# EAGLE library part XC2S-PQ208 (library Xilinx)
Spartan 2 in a PQ208 package with no connects for the 30 XC2S30 device labeled with NC
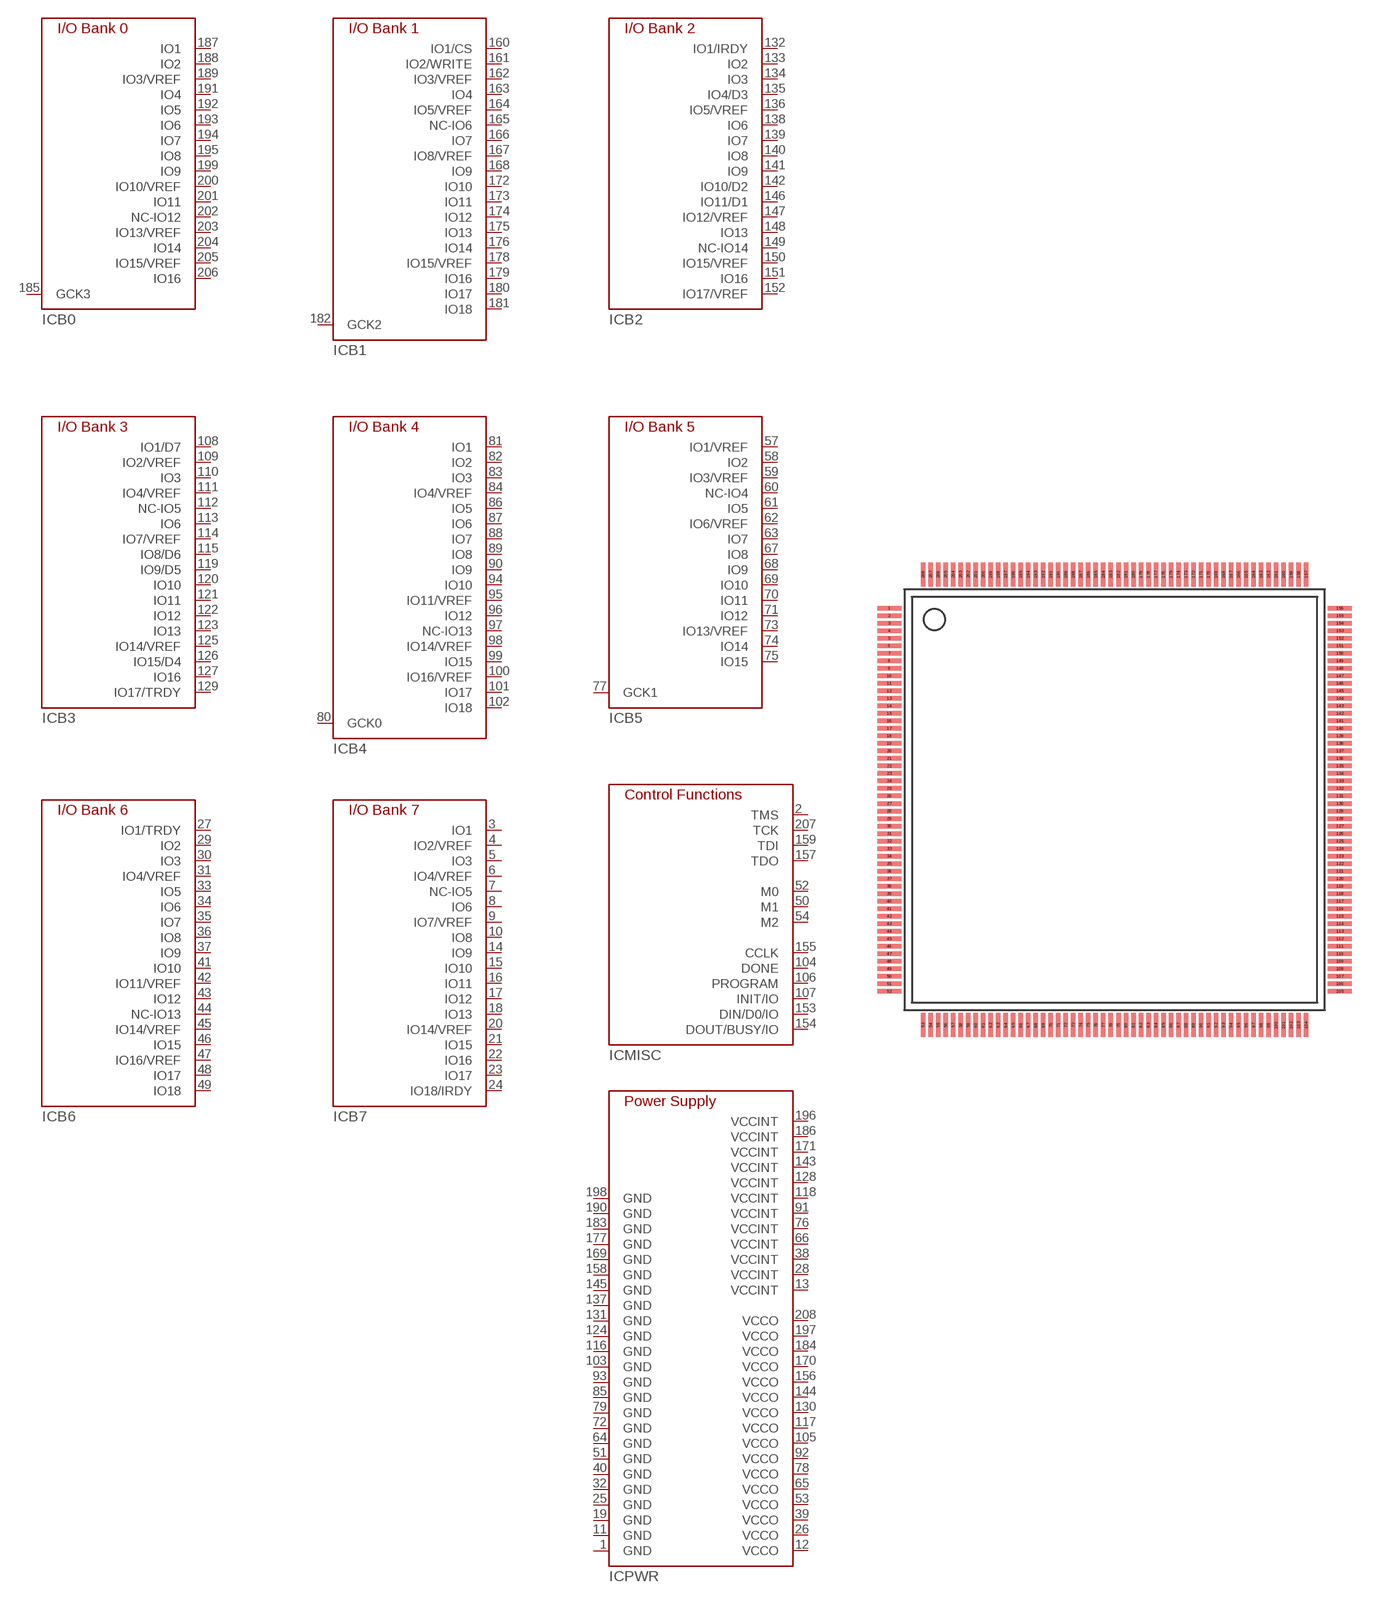
[diagram p25: symbol with the pads of PQ208; footprint PQ208]

Designator prefix IC; gates B0=XC2S/PQ208-B0 B1=XC2S/PQ208-B1 B2=XC2S/PQ208-B2 B3=XC2S/PQ208-B3 B4=XC2S/PQ208-B4 B5=XC2S/PQ208-B5 B6=XC2S/PQ208-B6 B7=XC2S/PQ208-B7 MISC=XC2S/PQ208-MISC PWR=XC2S/PQ208-PWR

## XC2S-PQ208  [PQ208]
1  PWR:GND  pwr
2  MISC:TMS
3  B7:IO1
4  B7:IO2/VREF
5  B7:IO3
6  B7:IO4/VREF
7  B7:NC-IO5
8  B7:IO6
9  B7:IO7/VREF
10  B7:IO8
11  PWR:GND  pwr
12  PWR:VCCO  pwr
13  PWR:VCCINT  pwr
14  B7:IO9
15  B7:IO10
16  B7:IO11
17  B7:IO12
18  B7:IO13
19  PWR:GND  pwr
20  B7:IO14/VREF
21  B7:IO15
22  B7:IO16
23  B7:IO17
24  B7:IO18/IRDY
25  PWR:GND  pwr
26  PWR:VCCO  pwr
27  B6:IO1/TRDY
28  PWR:VCCINT  pwr
29  B6:IO2
30  B6:IO3
31  B6:IO4/VREF
32  PWR:GND  pwr
33  B6:IO5
34  B6:IO6
35  B6:IO7
36  B6:IO8
37  B6:IO9
38  PWR:VCCINT  pwr
39  PWR:VCCO  pwr
40  PWR:GND  pwr
41  B6:IO10
42  B6:IO11/VREF
43  B6:IO12
44  B6:NC-IO13
45  B6:IO14/VREF
46  B6:IO15
47  B6:IO16/VREF
48  B6:IO17
49  B6:IO18
50  MISC:M1
51  PWR:GND  pwr
52  MISC:M0
53  PWR:VCCO  pwr
54  MISC:M2
57  B5:IO1/VREF
58  B5:IO2
59  B5:IO3/VREF
60  B5:NC-IO4
61  B5:IO5
62  B5:IO6/VREF
63  B5:IO7
64  PWR:GND  pwr
65  PWR:VCCO  pwr
66  PWR:VCCINT  pwr
67  B5:IO8
68  B5:IO9
69  B5:IO10
70  B5:IO11
71  B5:IO12
72  PWR:GND  pwr
73  B5:IO13/VREF
74  B5:IO14
75  B5:IO15
76  PWR:VCCINT  pwr
77  B5:GCK1
78  PWR:VCCO  pwr
79  PWR:GND  pwr
80  B4:GCK0
81  B4:IO1
82  B4:IO2
83  B4:IO3
84  B4:IO4/VREF
85  PWR:GND  pwr
86  B4:IO5
87  B4:IO6
88  B4:IO7
89  B4:IO8
90  B4:IO9
91  PWR:VCCINT  pwr
92  PWR:VCCO  pwr
93  PWR:GND  pwr
94  B4:IO10
95  B4:IO11/VREF
96  B4:IO12
97  B4:NC-IO13
98  B4:IO14/VREF
99  B4:IO15
100  B4:IO16/VREF
101  B4:IO17
102  B4:IO18
103  PWR:GND  pwr
104  MISC:DONE
105  PWR:VCCO  pwr
106  MISC:PROGRAM
107  MISC:INIT/IO
108  B3:IO1/D7
109  B3:IO2/VREF
110  B3:IO3
111  B3:IO4/VREF
112  B3:NC-IO5
113  B3:IO6
114  B3:IO7/VREF
115  B3:IO8/D6
116  PWR:GND  pwr
117  PWR:VCCO  pwr
118  PWR:VCCINT  pwr
119  B3:IO9/D5
120  B3:IO10
121  B3:IO11
122  B3:IO12
123  B3:IO13
124  PWR:GND  pwr
125  B3:IO14/VREF
126  B3:IO15/D4
127  B3:IO16
128  PWR:VCCINT  pwr
129  B3:IO17/TRDY
130  PWR:VCCO  pwr
131  PWR:GND  pwr
132  B2:IO1/IRDY
133  B2:IO2
134  B2:IO3
135  B2:IO4/D3
136  B2:IO5/VREF
137  PWR:GND  pwr
138  B2:IO6
139  B2:IO7
140  B2:IO8
141  B2:IO9
142  B2:IO10/D2
143  PWR:VCCINT  pwr
144  PWR:VCCO  pwr
145  PWR:GND  pwr
146  B2:IO11/D1
147  B2:IO12/VREF
148  B2:IO13
149  B2:NC-IO14
150  B2:IO15/VREF
151  B2:IO16
152  B2:IO17/VREF
153  MISC:DIN/D0/IO
154  MISC:DOUT/BUSY/IO
155  MISC:CCLK
156  PWR:VCCO  pwr
157  MISC:TDO
158  PWR:GND  pwr
159  MISC:TDI
160  B1:IO1/CS
161  B1:IO2/WRITE
162  B1:IO3/VREF
163  B1:IO4
164  B1:IO5/VREF
165  B1:NC-IO6
166  B1:IO7
167  B1:IO8/VREF
168  B1:IO9
169  PWR:GND  pwr
170  PWR:VCCO  pwr
171  PWR:VCCINT  pwr
172  B1:IO10
173  B1:IO11
174  B1:IO12
175  B1:IO13
176  B1:IO14
177  PWR:GND  pwr
178  B1:IO15/VREF
179  B1:IO16
180  B1:IO17
181  B1:IO18
182  B1:GCK2
183  PWR:GND  pwr
184  PWR:VCCO  pwr
185  B0:GCK3
186  PWR:VCCINT  pwr
187  B0:IO1
188  B0:IO2
189  B0:IO3/VREF
190  PWR:GND  pwr
191  B0:IO4
192  B0:IO5
193  B0:IO6
194  B0:IO7
195  B0:IO8
196  PWR:VCCINT  pwr
197  PWR:VCCO  pwr
198  PWR:GND  pwr
199  B0:IO9
200  B0:IO10/VREF
201  B0:IO11
202  B0:NC-IO12
203  B0:IO13/VREF
204  B0:IO14
205  B0:IO15/VREF
206  B0:IO16
207  MISC:TCK
208  PWR:VCCO  pwr

## Footprint PQ208 (pad centres in mm)
smd 1.6 x 0.3: 1 -15,12.75; 2 -15,12.25; 3 -15,11.75; 4 -15,11.25; 5 -15,10.75; 6 -15,10.25; 7 -15,9.75; 8 -15,9.25; 9 -15,8.75; 10 -15,8.25; 11 -15,7.75; 12 -15,7.25; 13 -15,6.75; 14 -15,6.25; 15 -15,5.75; 16 -15,5.25; 17 -15,4.75; 18 -15,4.25; 19 -15,3.75; 20 -15,3.25; 21 -15,2.75; 22 -15,2.25; 23 -15,1.75; 24 -15,1.25; 25 -15,0.75; 26 -15,0.25; 27 -15,-0.25; 28 -15,-0.75; 29 -15,-1.25; 30 -15,-1.75; 31 -15,-2.25; 32 -15,-2.75; 33 -15,-3.25; 34 -15,-3.75; 35 -15,-4.25; 36 -15,-4.75; 37 -15,-5.25; 38 -15,-5.75; 39 -15,-6.25; 40 -15,-6.75; 41 -15,-7.25; 42 -15,-7.75; 43 -15,-8.25; 44 -15,-8.75; 45 -15,-9.25; 46 -15,-9.75; 47 -15,-10.25; 48 -15,-10.75; 49 -15,-11.25; 50 -15,-11.75; 51 -15,-12.25; 52 -15,-12.75; 105 15,-12.75; 106 15,-12.25; 107 15,-11.75; 108 15,-11.25; 109 15,-10.75; 110 15,-10.25; 111 15,-9.75; 112 15,-9.25; 113 15,-8.75; 114 15,-8.25; 115 15,-7.75; 116 15,-7.25; 117 15,-6.75; 118 15,-6.25; 119 15,-5.75; 120 15,-5.25; 121 15,-4.75; 122 15,-4.25; 123 15,-3.75; 124 15,-3.25; 125 15,-2.75; 126 15,-2.25; 127 15,-1.75; 128 15,-1.25; 129 15,-0.75; 130 15,-0.25; 131 15,0.25; 132 15,0.75; 133 15,1.25; 134 15,1.75; 135 15,2.25; 136 15,2.75; 137 15,3.25; 138 15,3.75; 139 15,4.25; 140 15,4.75; 141 15,5.25; 142 15,5.75; 143 15,6.25; 144 15,6.75; 145 15,7.25; 146 15,7.75; 147 15,8.25; 148 15,8.75; 149 15,9.25; 150 15,9.75; 151 15,10.25; 152 15,10.75; 153 15,11.25; 154 15,11.75; 155 15,12.25; 156 15,12.75
smd 0.3 x 1.6: 53 -12.75,-15; 54 -12.25,-15; 55 -11.75,-15; 56 -11.25,-15; 57 -10.75,-15; 58 -10.25,-15; 59 -9.75,-15; 60 -9.25,-15; 61 -8.75,-15; 62 -8.25,-15; 63 -7.75,-15; 64 -7.25,-15; 65 -6.75,-15; 66 -6.25,-15; 67 -5.75,-15; 68 -5.25,-15; 69 -4.75,-15; 70 -4.25,-15; 71 -3.75,-15; 72 -3.25,-15; 73 -2.75,-15; 74 -2.25,-15; 75 -1.75,-15; 76 -1.25,-15; 77 -0.75,-15; 78 -0.25,-15; 79 0.25,-15; 80 0.75,-15; 81 1.25,-15; 82 1.75,-15; 83 2.25,-15; 84 2.75,-15; 85 3.25,-15; 86 3.75,-15; 87 4.25,-15; 88 4.75,-15; 89 5.25,-15; 90 5.75,-15; 91 6.25,-15; 92 6.75,-15; 93 7.25,-15; 94 7.75,-15; 95 8.25,-15; 96 8.75,-15; 97 9.25,-15; 98 9.75,-15; 99 10.25,-15; 100 10.75,-15; 101 11.25,-15; 102 11.75,-15; 103 12.25,-15; 104 12.75,-15; 157 12.75,15; 158 12.25,15; 159 11.75,15; 160 11.25,15; 161 10.75,15; 162 10.25,15; 163 9.75,15; 164 9.25,15; 165 8.75,15; 166 8.25,15; 167 7.75,15; 168 7.25,15; 169 6.75,15; 170 6.25,15; 171 5.75,15; 172 5.25,15; 173 4.75,15; 174 4.25,15; 175 3.75,15; 176 3.25,15; 177 2.75,15; 178 2.25,15; 179 1.75,15; 180 1.25,15; 181 0.75,15; 182 0.25,15; 183 -0.25,15; 184 -0.75,15; 185 -1.25,15; 186 -1.75,15; 187 -2.25,15; 188 -2.75,15; 189 -3.25,15; 190 -3.75,15; 191 -4.25,15; 192 -4.75,15; 193 -5.25,15; 194 -5.75,15; 195 -6.25,15; 196 -6.75,15; 197 -7.25,15; 198 -7.75,15; 199 -8.25,15; 200 -8.75,15; 201 -9.25,15; 202 -9.75,15; 203 -10.25,15; 204 -10.75,15; 205 -11.25,15; 206 -11.75,15; 207 -12.25,15; 208 -12.75,15